# Altium footprint library IDT.PcbLib: 2 footprints
Each footprint in its own frame and in the unit in brackets; x right, y up, seen from the top. Pads: shape width x height; smd on the part's side, far side on the other; paste and mask are expansions set on the pad; w line width, h text height; cw(c..) or ccw(c..) is an arc to the next point about the centre after c.
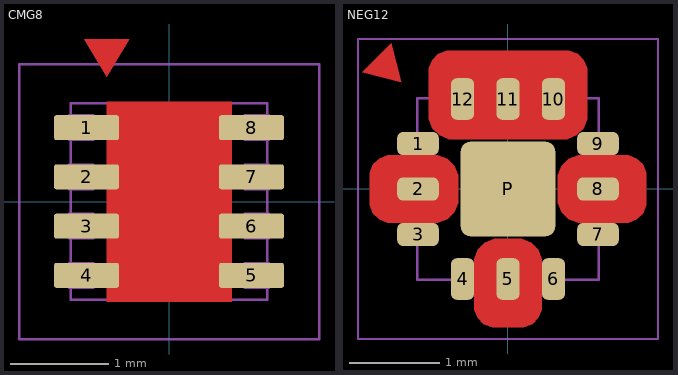
[diagram p0: the footprints below, top view; thin cyan lines are the x and y axes]

## CMG8 [mil]
pads (8):
  rrect20% 26x10 smd mask+2: 1(-33,29.53) 2(-33,9.84) 3(-33,-9.84) 4(-33,-29.53) 5(33,-29.53) 6(33,-9.84) 7(33,9.84) 8(33,29.53)
Top Layer:
  pour cut-out: -25,40 -25,-40 25,-40 25,40
  region: -25,50 -16,65 -34,65
Top Designator:
  text ".Designator" at 12.5,-127.64 h35
Top Courtyard:
  lines w1: -60,-55 60,-55 60,55 -60,55 -60,-55
Top Component Outline:
  lines w1: -39.87,-34.45 -39.87,-24.61 -30.23,-24.61 -30.23,-34.45 -39.87,-34.45 ; -39.87,-14.76 -39.87,-4.92 -30.23,-4.92 -30.23,-14.76 -39.87,-14.76 ; -39.87,4.92 -30.23,4.92 -30.23,14.76 -39.87,14.76 -39.87,4.92 ; -39.87,24.61 -39.87,34.45 -30.23,34.45 -30.23,24.61 -39.87,24.61 ; -39.37,-39.37 39.37,-39.37 39.37,39.37 -39.37,39.37 -39.37,-39.37 ; 30.23,-34.45 30.23,-24.61 39.87,-24.61 39.87,-34.45 30.23,-34.45 ; 30.23,-14.76 39.87,-14.76 39.87,-4.92 30.23,-4.92 30.23,-14.76 ; 30.23,4.92 30.23,14.76 39.87,14.76 39.87,4.92 30.23,4.92 ; 30.23,24.61 30.23,34.45 39.87,34.45 39.87,24.61 30.23,24.61
3D body: height 7.87, standoff 0, extent 30.03,-14.76 39.87,-4.92
3D body: height 7.87, standoff 0, extent 30.03,-34.45 39.87,-24.61
3D body: height 7.87, standoff 0, extent 30.03,4.92 39.87,14.76
3D body: height 7.87, standoff 0, extent 30.03,24.61 39.87,34.45
3D body: height 7.87, standoff 0, extent -39.87,-34.45 -30.03,-24.61
3D body: height 7.87, standoff 0, extent -39.87,-14.76 -30.03,-4.92
3D body: height 7.87, standoff 0, extent -39.87,24.61 -30.03,34.45
3D body: height 7.87, standoff 0, extent -39.87,4.92 -30.03,14.76
3D body: height 29.53, standoff 1.97, extent -39.37,-39.37 39.37,39.37

## NEG12 [mil]
pads (13):
  rrect50% 18x10 smd mask+1.5: 1(-39,19.69) 2(-39,0) 3(-39,-19.68) 7(39,-19.69) 8(39,0) 9(39,19.68)
  rrect50% 10x18 smd mask+1.5: 4(-19.69,-39) 5(0,-39) 6(19.68,-39) 10(19.69,39) 11(0,39) 12(-19.68,39)
  rrect20% 41x41 smd paste-100 mask+1.5: P(0,0)
Top Layer:
  pour cut-out: 32.5,-14.69 30.34,-14.69 26.36,-13.03 23.3,-9.98 21.65,-6 21.65,-3.84 21.65,3.84 21.65,6 23.3,9.98 26.36,13.03 30.34,14.69 32.5,14.69 50.31,14.69 52.24,14.69 55.8,13.21 58.53,10.49 60,6.93 60,5 60,-5 60,-6.93 58.53,-10.49 55.8,-13.21 52.24,-14.69 50.31,-14.69
  pour cut-out: -14.69,-32.5 -14.69,-30.34 -13.03,-26.36 -9.98,-23.3 -6,-21.65 -3.84,-21.65 3.84,-21.65 6,-21.65 9.98,-23.3 13.03,-26.36 14.69,-30.34 14.69,-32.5 14.69,-50.31 14.69,-52.24 13.21,-55.8 10.49,-58.53 6.93,-60 5,-60 -5,-60 -6.93,-60 -10.49,-58.53 -13.21,-55.8 -14.69,-52.24 -14.69,-50.31
  pour cut-out: -32.5,14.69 -30.34,14.69 -26.36,13.03 -23.3,9.98 -21.65,6 -21.65,3.84 -21.65,-3.84 -21.65,-6 -23.3,-9.98 -26.36,-13.03 -30.34,-14.69 -32.5,-14.69 -50.31,-14.69 -52.24,-14.69 -55.8,-13.21 -58.53,-10.49 -60,-6.93 -60,-5 -60,5 -60,6.93 -58.53,10.49 -55.8,13.21 -52.24,14.69 -50.31,14.69
  region: -46.26,46.26 -50.5,63.23 -63.23,50.51
  pour cut-out: -23.52,21.65 23.52,21.65 25.68,21.65 29.67,23.3 32.72,26.36 34.37,30.34 34.37,32.5 34.37,50.31 34.37,52.24 32.9,55.8 30.17,58.53 26.61,60 24.69,60 -24.68,60 -26.61,60 -30.17,58.53 -32.9,55.8 -34.37,52.24 -34.37,50.31 -34.37,32.5 -34.37,30.34 -32.72,26.36 -29.67,23.3 -25.68,21.65
Top Paste:
  region: -3,3 -3,18 -14,18 -18,14 -18,3
  region: -3,-3 -18,-3 -18,-14 -14,-18 -3,-18
  region: 3,-3 3,-18 14,-18 18,-14 18,-3
  region: 3,3 18,3 18,14 14,18 3,18
Top Designator:
  text ".Designator" at -127.64,-12.5 h35
Top Courtyard:
  lines w1: -65,-65 -65,65 65,65 65,-65 -65,-65
Top Component Outline:
  lines w1: -39.37,-39.37 39.37,-39.37 39.37,39.37 -39.37,39.37 -39.37,-39.37
3D body: height 10, standoff 0, extent -24.68,30.37 -14.69,40.37
3D body: height 10, standoff 0, extent -5,30.37 5,40.37
3D body: height 10, standoff 0, extent 14.69,30.37 24.69,40.37
3D body: height 10, standoff 0, extent 30.37,14.69 40.37,24.68
3D body: height 10, standoff 0, extent 30.37,-5 40.37,5
3D body: height 10, standoff 0, extent 30.37,-24.69 40.37,-14.69
3D body: height 10, standoff 0, extent -40.37,14.69 -30.37,24.69
3D body: height 10, standoff 0, extent -40.37,-5 -30.37,5
3D body: height 10, standoff 0, extent -40.37,-24.68 -30.37,-14.69
3D body: height 10, standoff 0, extent -24.69,-40.37 -14.69,-30.37
3D body: height 10, standoff 0, extent -5,-40.37 5,-30.37
3D body: height 10, standoff 0, extent 14.69,-40.37 24.68,-30.37
3D body: height 21, standoff 0, extent -39.37,-39.37 39.37,39.37